# Altium footprint library SMD_3PIN.PcbLib: 1 footprints
Each footprint in its own frame and in the unit in brackets; x right, y up, seen from the top. Pads: shape width x height; smd on the part's side, far side on the other; paste and mask are expansions set on the pad; w line width, h text height; cw(c..) or ccw(c..) is an arc to the next point about the centre after c.
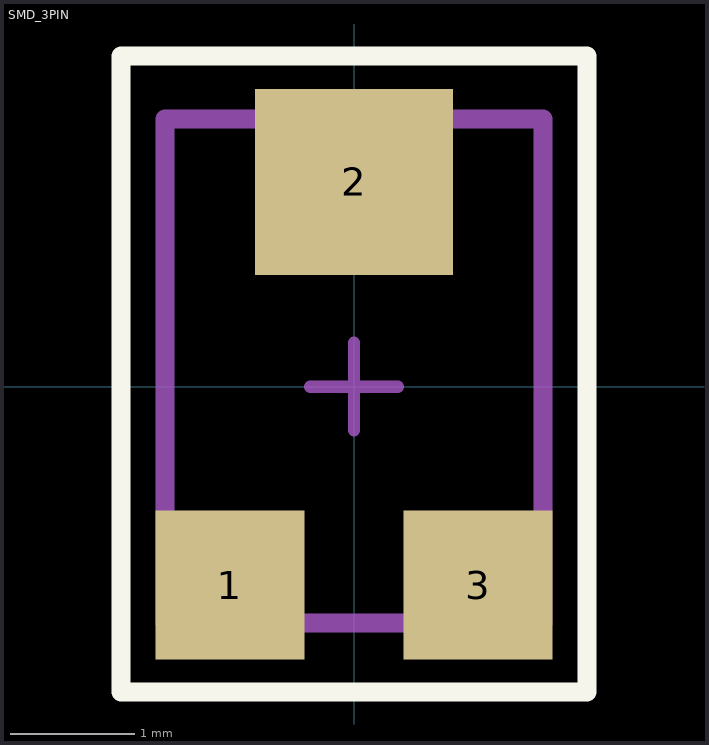
[diagram p0: the footprint, top view; thin cyan lines are the x and y axes]

## SMD_3PIN [mm]
pads (3):
  rect 1.2x1.2 smd: 1(-1,-1.6) 3(1,-1.6)
  rect 1.6x1.5 smd: 2(0,1.65)
Top Overlay:
  lines w0.152: -1.88,-2.464 1.88,-2.464 1.88,2.667 -1.88,2.667 -1.88,-2.464
Top Designator:
  text ".Designator" at -7.618,-0.406 h1.52
Top Courtyard:
  lines w0.152: -1.524,-1.905 -1.524,2.159 1.524,2.159 1.524,-1.905 -1.524,-1.905
Top Component Center:
  lines w0.1: -0.353,0 0.353,0 ; 0,-0.353 0,0.353
3D body "3303W.STEP": height 1.45, standoff -0.01, extent -1.575,-1.953 1.525,2.152